# Altium integrated library WE-PD HV SMD Power Inductor.IntLib: 18 symbols
Pins are listed as number, name and electrical type; pins without a type are passive.

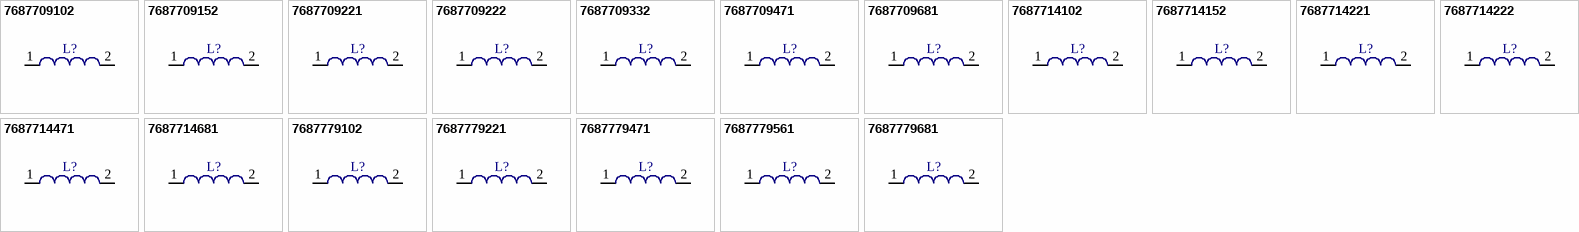
[diagram p0: symbols 7687709102 to 7687779681]

## 7687709102
designator L?
SMD Power Inductor WE-PD HV, L=1000 µH; PartNumber: 7687709102; Inductance: 1000 µH; PackageReference: 1210_A; ComponentLink1Description: Manufacturer URL; ComponentLink1URL: http://www.we-online.com; ComponentLink2Description: Datasheet; ComponentLink2URL: http://www.we-online.de/katalog/media/pdf/7687709102.pdf
footprint 1210_A (Precision Wire Wound Inductor, 2-Leads, Body 12.0x12.0mm, IPC Medium Density)
pins: 1, 2

## 7687709152
designator L?
SMD Power Inductor WE-PD HV, L=1500 µH; PartNumber: 7687709152; Inductance: 1500 µH; PackageReference: 1210_A; ComponentLink1Description: Manufacturer URL; ComponentLink1URL: http://www.we-online.com; ComponentLink2Description: Datasheet; ComponentLink2URL: http://www.we-online.de/katalog/media/pdf/7687709152.pdf
footprint 1210_A (Precision Wire Wound Inductor, 2-Leads, Body 12.0x12.0mm, IPC Medium Density)
pins: 1, 2

## 7687709221
designator L?
SMD Power Inductor WE-PD HV, L=220 µH; PartNumber: 7687709221; Inductance: 220 µH; PackageReference: 1210_A; ComponentLink1Description: Manufacturer URL; ComponentLink1URL: http://www.we-online.com; ComponentLink2Description: Datasheet; ComponentLink2URL: http://www.we-online.de/katalog/media/pdf/7687709221.pdf
footprint 1210_A (Precision Wire Wound Inductor, 2-Leads, Body 12.0x12.0mm, IPC Medium Density)
pins: 1, 2

## 7687709222
designator L?
SMD Power Inductor WE-PD HV, L=2200 µH; PartNumber: 7687709222; Inductance: 2200 µH; PackageReference: 1210_A; ComponentLink1Description: Manufacturer URL; ComponentLink1URL: http://www.we-online.com; ComponentLink2Description: Datasheet; ComponentLink2URL: http://www.we-online.de/katalog/media/pdf/7687709222.pdf
footprint 1210_A (Precision Wire Wound Inductor, 2-Leads, Body 12.0x12.0mm, IPC Medium Density)
pins: 1, 2

## 7687709332
designator L?
SMD Power Inductor WE-PD HV, L=3300 µH; PartNumber: 7687709332; Inductance: 3300 µH; PackageReference: 1210_A; ComponentLink1Description: Manufacturer URL; ComponentLink1URL: http://www.we-online.com; ComponentLink2Description: Datasheet; ComponentLink2URL: http://www.we-online.de/katalog/media/pdf/ 7687709332.pdf
footprint 1210_A (Precision Wire Wound Inductor, 2-Leads, Body 12.0x12.0mm, IPC Medium Density)
pins: 1, 2

## 7687709471
designator L?
SMD Power Inductor WE-PD HV, L=470 µH; PartNumber: 7687709471; Inductance: 470 µH; PackageReference: 1210_A; ComponentLink1Description: Manufacturer URL; ComponentLink1URL: http://www.we-online.com; ComponentLink2Description: Datasheet; ComponentLink2URL: http://www.we-online.de/katalog/media/pdf/7687709471.pdf
footprint 1210_A (Precision Wire Wound Inductor, 2-Leads, Body 12.0x12.0mm, IPC Medium Density)
pins: 1, 2

## 7687709681
designator L?
SMD Power Inductor WE-PD HV, L=680 µH; PartNumber: 7687709681; Inductance: 680 µH; PackageReference: 1210_A; ComponentLink1Description: Manufacturer URL; ComponentLink1URL: http://www.we-online.com; ComponentLink2Description: Datasheet; ComponentLink2URL: http://www.we-online.de/katalog/media/pdf/7687709681.pdf
footprint 1210_A (Precision Wire Wound Inductor, 2-Leads, Body 12.0x12.0mm, IPC Medium Density)
pins: 1, 2

## 7687714102
designator L?
SMD Power Inductor WE-PD HV, L=1000 µH; PartNumber: 7687714102; Inductance: 1000 µH; PackageReference: 1060; ComponentLink1Description: Manufacturer URL; ComponentLink1URL: http://www.we-online.com; ComponentLink2Description: Datasheet; ComponentLink2URL: http://www.we-online.de/katalog/media/pdf/7687714102.pdf
footprint 1060 (Precision Wire Wound Inductor, 2-Leads, Body 10.0x10.0mm, IPC Medium Density)
pins: 1, 2

## 7687714152
designator L?
SMD Power Inductor WE-PD HV, L=1500 µH; PartNumber: 7687714152; Inductance: 1500 µH; PackageReference: 1060; ComponentLink1Description: Manufacturer URL; ComponentLink1URL: http://www.we-online.com; ComponentLink2Description: Datasheet; ComponentLink2URL: http://www.we-online.de/katalog/media/pdf/7687714152.pdf
footprint 1060 (Precision Wire Wound Inductor, 2-Leads, Body 10.0x10.0mm, IPC Medium Density)
pins: 1, 2

## 7687714221
designator L?
SMD Power Inductor WE-PD HV, L=220 µH; PartNumber: 7687714221; Inductance: 220 µH; PackageReference: 1060; ComponentLink1Description: Manufacturer URL; ComponentLink1URL: http://www.we-online.com; ComponentLink2Description: Datasheet; ComponentLink2URL: http://www.we-online.de/katalog/media/pdf/7687714221.pdf
footprint 1060 (Precision Wire Wound Inductor, 2-Leads, Body 10.0x10.0mm, IPC Medium Density)
pins: 1, 2

## 7687714222
designator L?
SMD Power Inductor WE-PD HV, L=2200 µH; PartNumber: 7687714222; Inductance: 2200 µH; PackageReference: 1060; ComponentLink1Description: Manufacturer URL; ComponentLink1URL: http://www.we-online.com; ComponentLink2Description: Datasheet; ComponentLink2URL: http://www.we-online.de/katalog/media/pdf/7687714222.pdf
footprint 1060 (Precision Wire Wound Inductor, 2-Leads, Body 10.0x10.0mm, IPC Medium Density)
pins: 1, 2

## 7687714471
designator L?
SMD Power Inductor WE-PD HV, L=470 µH; PartNumber: 7687714471; Inductance: 470 µH; PackageReference: 1060; ComponentLink1Description: Manufacturer URL; ComponentLink1URL: http://www.we-online.com; ComponentLink2Description: Datasheet; ComponentLink2URL: http://www.we-online.de/katalog/media/pdf/7687714471.pdf
footprint 1060 (Precision Wire Wound Inductor, 2-Leads, Body 10.0x10.0mm, IPC Medium Density)
pins: 1, 2

## 7687714681
designator L?
SMD Power Inductor WE-PD HV, L=680 µH; PartNumber: 7687714681; Inductance: 680 µH; PackageReference: 1060; ComponentLink1Description: Manufacturer URL; ComponentLink1URL: http://www.we-online.com; ComponentLink2Description: Datasheet; ComponentLink2URL: http://www.we-online.de/katalog/media/pdf/7687714681.pdf
footprint 1060 (Precision Wire Wound Inductor, 2-Leads, Body 10.0x10.0mm, IPC Medium Density)
pins: 1, 2

## 7687779102
designator L?
SMD Power Inductor WE-PD HV, L=1000 µH; PartNumber: 7687779102; Inductance: 1000 µH; PackageReference: 7345; ComponentLink1Description: Manufacturer URL; ComponentLink1URL: http://www.we-online.com; ComponentLink2Description: Datasheet; ComponentLink2URL: http://www.we-online.de/katalog/media/pdf/7687779102.pdf
footprint 7345 (Precision Wire Wound Inductor, 2-Leads, Body 7.3x7.3mm, IPC Medium Density)
pins: 1, 2

## 7687779221
designator L?
SMD Power Inductor WE-PD HV, L=220 µH; PartNumber: 7687779221; Inductance: 220 µH; PackageReference: 7345; ComponentLink1Description: Manufacturer URL; ComponentLink1URL: http://www.we-online.com; ComponentLink2Description: Datasheet; ComponentLink2URL: http://www.we-online.de/katalog/media/pdf/7687779221.pdf
footprint 7345 (Precision Wire Wound Inductor, 2-Leads, Body 7.3x7.3mm, IPC Medium Density)
pins: 1, 2

## 7687779471
designator L?
SMD Power Inductor WE-PD HV, L=470 µH; PartNumber: 7687779471; Inductance: 470 µH; PackageReference: 7345; ComponentLink1Description: Manufacturer URL; ComponentLink1URL: http://www.we-online.com; ComponentLink2Description: Datasheet; ComponentLink2URL: http://www.we-online.de/katalog/media/pdf/7687779471.pdf
footprint 7345 (Precision Wire Wound Inductor, 2-Leads, Body 7.3x7.3mm, IPC Medium Density)
pins: 1, 2

## 7687779561
designator L?
SMD Power Inductor WE-PD HV, L=560 µH; PartNumber: 7687779561; Inductance: 560 µH; PackageReference: 7345; ComponentLink1Description: Manufacturer URL; ComponentLink1URL: http://www.we-online.com; ComponentLink2Description: Datasheet; ComponentLink2URL: http://www.we-online.de/katalog/media/pdf/7687779561.pdf
footprint 7345 (Precision Wire Wound Inductor, 2-Leads, Body 7.3x7.3mm, IPC Medium Density)
pins: 1, 2

## 7687779681
designator L?
SMD Power Inductor WE-PD HV, L=680 µH; PartNumber: 7687779681; Inductance: 680 µH; PackageReference: 7345; ComponentLink1Description: Manufacturer URL; ComponentLink1URL: http://www.we-online.com; ComponentLink2Description: Datasheet; ComponentLink2URL: http://www.we-online.de/katalog/media/pdf/7687779681.pdf
footprint 7345 (Precision Wire Wound Inductor, 2-Leads, Body 7.3x7.3mm, IPC Medium Density)
pins: 1, 2